# Altium schematic symbol library BTS240A.SchLib: 1 symbol
Pins are listed as number, name and electrical type; pins without a type are passive.

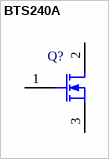
[diagram p0: symbol BTS240A]

## BTS240A
designator Q?
TEMPFET, 50 V VDS, 58 A ID, -55 to 150 degC, PG-TO-218-3, Tube, Green; Manufacturer: Infineon; PartNumber: BTS240A; Channels: 1; Green: TRUE; ID: 58 A; ID(nom): 21 A; ISC (max): 147 A; Ptot (max): 170 W; RDS (on)(max): 18 mOhm; ton (max): 0.31 us; toff (max): 0.89 us; VDS (max): 50 V; DatasheetVersion: Rev. 1.2; PackageVersion: Jul-10; PackageReference: PG-TO-218-3; PackageDescription: 3-Pin Plastic (Green) Transistor Single Outline Package, 15 x 12.5 mm Body, 5.5 mm Pitch; Supplier 1: Mouser; Supplier Part Number 1: 726-BTS240A; Group: TEMPFET; Halogen-free: FALSE; Packing: Tube; Mounting Technology: Through Hole; ComponentLink1Description: Manufacturer URL; ComponentLink1URL: http://www.infineon.com/; ComponentLink2Description: Datasheet; ComponentLink2URL: http://www.infineon.com/dgdl/BTS240A-Data-Sheet-12.pdf?folderId=db3a304412b407950112b4365a5b65fc&fileId=db3a30433072cd8f0130ac1ef5e3260c&location=en.Products.Automotive_ICs.Smart_High-_and_Low-Side_Switches.HITFET___TEMPFET__-_Smart_Low-Side_Switches.DATASHEET.BTS240A-Data-Sheet-12.pdf; ComponentLink3Description: Package Specification; ComponentLink3URL: http://www.infineon.com/dgdl/BTS240A-Data-Sheet-12.pdf?folderId=db3a304412b407950112b4365a5b65fc&fileId=db3a30433072cd8f0130ac1ef5e3260c&location=en.Products.Automotive_ICs.Smart_High-_and_Low-Side_Switches.HITFET___TEMPFET__-_Smart_Low-Side_Switches.DATASHEET.BTS240A-Data-Sheet-12.pdf
footprint INF-PG-TO-218-3 (FM, 3-Leads, Body 15x4.9mm, Pitch 5.5mm)
pins: 1 G, 2 D, 3 S